# Altium schematic symbol library 691 201 720 0xx.SchLib: 2 symbols
Pins are listed as number, name and electrical type; pins without a type are passive.

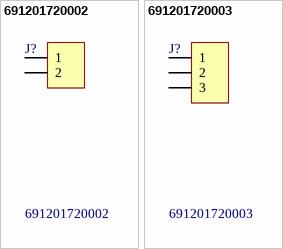
[diagram p0: symbols 691201720002 to 691201720003]

## 691201720002
designator J?
WR-TBL 45° Entry Modular with Rising Cage Clamp,Serie 201 - 5.00 mm; Manufacturer: Würth Elektronik eiSos GmbH; ComponentLink1 Description: Manufacturer; ComponentLink2 Description: Datasheet; NoPins: 2; Created Date: 21 Novenber 2013; partNo: 691201720002; ComponentLink1URL: http://www.we-online.com; ComponentLink2URL: http://katalog.we-online.de/em/datasheet/6912017200xx.pdf; Created by: Karrer Zheng
footprint 691201720002 (5,00mm - modular - blue -45° entry with rising cage clamp - 02p)
pins: 1, 2

## 691201720003
designator J?
WR-TBL 45° Entry Modular with Rising Cage Clamp,Serie 201 - 5.00 mm; Manufacturer: Würth Elektronik eiSos GmbH; ComponentLink1 Description: Manufacturer; ComponentLink2 Description: Datasheet; NoPins: 3; Created Date: 21 Novenber 2013; partNo: 691201720003; ComponentLink1URL: http://www.we-online.com; ComponentLink2URL: http://katalog.we-online.de/em/datasheet/6912017200xx.pdf; Created by: Karrer Zheng
footprint 691201720003 (5,00mm - modular - blue -45° entry with rising cage clamp - 03p)
pins: 1, 2, 3